# Altium footprint library ON Semi JFETs.PcbLib: 15 footprints
Each footprint in its own frame and in the unit in brackets; x right, y up, seen from the top. Pads: shape width x height; smd on the part's side, far side on the other; paste and mask are expansions set on the pad; w line width, h text height; cw(c..) or ccw(c..) is an arc to the next point about the centre after c.
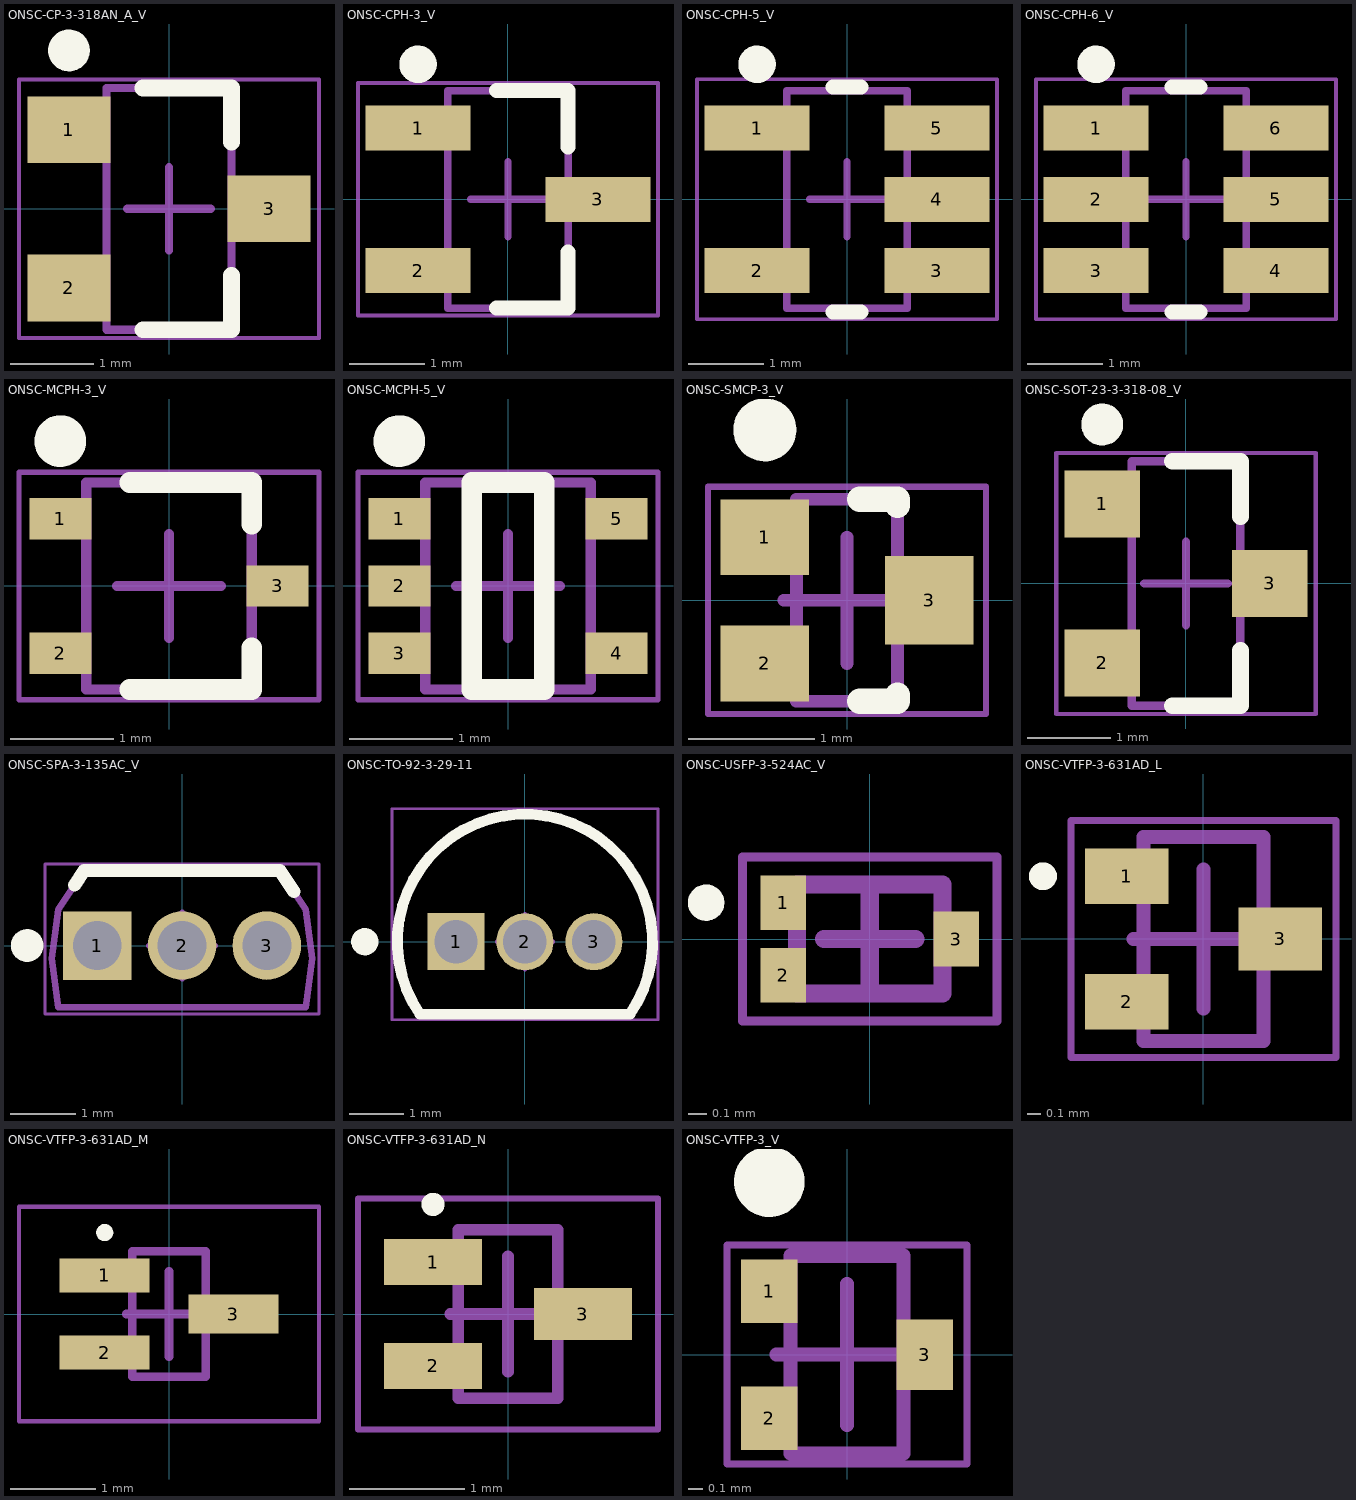
[diagram p0: the footprints below, top view; thin cyan lines are the x and y axes]

## ONSC-CP-3-318AN_A_V [mm] "SOT23, 3-Leads, Body 2.9x1.5mm, Pitch 0.95mm"
height 1.308
pads (3):
  rect 1x0.8 smd: 1(-1.2,0.95) 2(-1.2,-0.95) 3(1.2,0)
Top Overlay:
  circle w0.25: c-1.2,1.9 r0.125
  lines w0.2: -0.313,-1.45 0.75,-1.45 0.75,-0.8 ; -0.313,1.45 0.75,1.45 0.75,0.8
Mechanical 13:
  lines w0.1: -0.75,-1.45 -0.75,1.45 0.75,1.45 0.75,-1.45 -0.75,-1.45
Mechanical 15:
  lines w0.05: -1.8,-1.55 -1.8,1.55 1.8,1.55 1.8,-1.55 -1.8,-1.55
  lines w0.1: -0.5,0 0.5,0 ; 0,-0.5 0,0.5
3D body: height 1.31, standoff 0, extent -0.75,-1.45 0.75,1.45

## ONSC-CPH-3_V [mm] "SOT23, 3-Leads, Body 2.9x1.6mm, Pitch 0.95mm"
height 1.05
pads (3):
  rect 1.4x0.6 smd: 1(-1.2,0.95) 2(-1.2,-0.95) 3(1.2,0)
Top Overlay:
  circle w0.25: c-1.2,1.8 r0.125
  lines w0.2: -0.154,-1.45 0.8,-1.45 0.8,-0.7 ; -0.154,1.45 0.8,1.45 0.8,0.7
Mechanical 13:
  lines w0.1: -0.8,-1.45 -0.8,1.45 0.8,1.45 0.8,-1.45 -0.8,-1.45
Mechanical 15:
  lines w0.05: -2,-1.55 -2,1.55 2,1.55 2,-1.55 -2,-1.55
  lines w0.1: -0.5,0 0.5,0 ; 0,-0.5 0,0.5
3D body: height 1.05, standoff 0, extent -0.8,-1.45 0.8,1.45

## ONSC-CPH-5_V [mm] "SOT23, 5-Leads, Body 2.9x1.6mm, Pitch 0.95mm"
height 1.02
pads (5):
  rect 1.4x0.6 smd: 1(-1.2,0.95) 2(-1.2,-0.95) 3(1.2,-0.95) 4(1.2,0) 5(1.2,0.95)
Top Overlay:
  circle w0.25: c-1.2,1.8 r0.125
  lines w0.2: -0.188,-1.5 0.188,-1.5 ; -0.188,1.5 0.188,1.5
Mechanical 13:
  lines w0.1: -0.8,-1.45 0.8,-1.45 0.8,1.45 -0.8,1.45 -0.8,-1.45
Mechanical 15:
  lines w0.05: -2,-1.6 2,-1.6 2,1.6 -2,1.6 -2,-1.6
  lines w0.1: -0.5,0 0.5,0 ; 0,-0.5 0,0.5
3D body: height 1.02, standoff 0, extent -0.8,-1.45 0.8,1.45

## ONSC-CPH-6_V [mm] "SOT23, 6-Leads, Body 2.9x1.6mm, Pitch 0.95mm"
height 1.02
pads (6):
  rect 1.4x0.6 smd: 1(-1.2,0.95) 2(-1.2,0) 3(-1.2,-0.95) 4(1.2,-0.95) 5(1.2,0) 6(1.2,0.95)
Top Overlay:
  circle w0.25: c-1.2,1.8 r0.125
  lines w0.2: -0.188,-1.5 0.188,-1.5 ; -0.188,1.5 0.188,1.5
Mechanical 13:
  lines w0.1: -0.8,-1.45 0.8,-1.45 0.8,1.45 -0.8,1.45 -0.8,-1.45
Mechanical 15:
  lines w0.05: -2,-1.6 2,-1.6 2,1.6 -2,1.6 -2,-1.6
  lines w0.1: -0.5,0 0.5,0 ; 0,-0.5 0,0.5
3D body: height 1.02, standoff 0, extent -0.8,-1.45 0.8,1.45

## ONSC-MCPH-3_V [mm] "SOT23, 3-Leads, Body 2x1.6mm, Pitch 0.65mm"
height 0.9
pads (3):
  rect 0.6x0.4 smd: 1(-1.05,0.65) 2(-1.05,-0.65) 3(1.05,0)
Top Overlay:
  circle w0.25: c-1.05,1.4 r0.125
  lines w0.2: -0.379,-1 0.8,-1 0.8,-0.6 ; -0.379,1 0.8,1 0.8,0.6
Mechanical 13:
  lines w0.1: -0.8,-1 -0.8,1 0.8,1 0.8,-1 -0.8,-1
Mechanical 15:
  lines w0.05: -1.45,-1.1 -1.45,1.1 1.45,1.1 1.45,-1.1 -1.45,-1.1
  lines w0.1: -0.5,0 0.5,0 ; 0,-0.5 0,0.5
3D body: height 0.9, standoff 0, extent -0.8,-1 0.8,1

## ONSC-MCPH-5_V [mm] "SOT23, 5-Leads, Body 2x1.6mm, Pitch 0.65mm"
height 0.9
pads (5):
  rect 0.6x0.4 smd: 1(-1.05,0.65) 2(-1.05,0) 3(-1.05,-0.65) 4(1.05,-0.65) 5(1.05,0.65)
Top Overlay:
  circle w0.25: c-1.05,1.4 r0.125
  lines w0.2: -0.35,-1 -0.35,1 0.35,1 0.35,-1 -0.35,-1
Mechanical 13:
  lines w0.1: -0.8,-1 -0.8,1 0.8,1 0.8,-1 -0.8,-1
Mechanical 15:
  lines w0.05: -1.45,-1.1 -1.45,1.1 1.45,1.1 1.45,-1.1 -1.45,-1.1
  lines w0.1: -0.5,0 0.5,0 ; 0,-0.5 0,0.5
3D body: height 0.9, standoff 0, extent -0.8,-1 0.8,1

## ONSC-SMCP-3_V [mm] "SOT23, 3-Leads, Body 1.6x0.8mm, Pitch 0.5mm"
height 0.912
pads (3):
  rect 0.7x0.6 smd: 1(-0.65,0.5) 2(-0.65,-0.5)
  rect 0.7x0.7 smd: 3(0.65,0)
Top Overlay:
  circle w0.25: c-0.65,1.35 r0.125
  lines w0.2: 0.1,-0.8 0.4,-0.8 0.4,-0.75 ; 0.1,0.8 0.4,0.8 0.4,0.75
Mechanical 13:
  lines w0.1: -0.4,-0.8 0.4,-0.8 0.4,0.8 -0.4,0.8 -0.4,-0.8
Mechanical 15:
  lines w0.05: -1.1,-0.9 1.1,-0.9 1.1,0.9 -1.1,0.9 -1.1,-0.9
  lines w0.1: -0.5,0 0.5,0 ; 0,-0.5 0,0.5
3D body: height 0.91, standoff 0, extent -0.4,-0.8 0.4,0.8

## ONSC-SOT-23-3-318-08_V [mm] "SOT23, 3-Leads, Body 2.92x1.3mm, Pitch 0.95mm"
height 1.11
pads (3):
  rect 0.9x0.8 smd: 1(-1,0.95) 2(-1,-0.95) 3(1,0)
Top Overlay:
  circle w0.25: c-1,1.9 r0.125
  lines w0.2: -0.165,-1.46 0.65,-1.46 0.65,-0.8 ; -0.165,1.46 0.65,1.46 0.65,0.8
Mechanical 13:
  lines w0.1: -0.65,-1.46 0.65,-1.46 0.65,1.46 -0.65,1.46 -0.65,-1.46
Mechanical 15:
  lines w0.05: -1.55,-1.56 1.55,-1.56 1.55,1.56 -1.55,1.56 -1.55,-1.56
  lines w0.1: -0.5,0 0.5,0 ; 0,-0.5 0,0.5
3D body: height 1.11, standoff 0.01, extent -0.65,-1.46 0.65,1.46

## ONSC-SPA-3-135AC_V [mm] "FM, 3-Leads, Body 4x2.2mm, Pitch 1.3mm"
height 5.083
pads (3):
  rect 1.05x1.05 hole 0.75: 1(-1.3,0)
  round 1.05 hole 0.75: 2(0,0) 3(1.3,0)
Top Overlay:
  circle w0.25: c-2.375,0 r0.125
  lines w0.2: -1.65,0.925 -1.5,1.15 1.5,1.15 1.716,0.826
Mechanical 13:
  lines w0.1: -2,-0.2 -1.9,0.55 -1.5,1.15 1.5,1.15 1.9,0.55 2,-0.2 1.9,-0.95 -1.9,-0.95 -2,-0.2
Mechanical 15:
  lines w0.05: -2.1,-1.05 2.1,-1.05 2.1,1.25 -2.1,1.25 -2.1,-1.05
  lines w0.1: -0.5,0 0.5,0 ; 0,-0.5 0,0.5
3D body: height 5.08, standoff 1.6, extent -2,-0.95 2,1.15
3D body: height 1.6, standoff -13.74, extent -0.199,-0.199 0.199,0.199
3D body: height 1.6, standoff -13.74, extent -1.499,-0.199 -1.1,0.2
3D body: height 1.6, standoff -13.74, extent 1.101,-0.199 1.5,0.2

## ONSC-TO-92-3-29-11 [mm] "TO, 3-Leads, Body Dia 4.7mm, Pitch 1.27mm"
height 7.87
pads (3):
  rect 1.05x1.05 hole 0.8: 1(-1.27,0)
  round 1.05 hole 0.8: 2(0,0) 3(1.27,0)
Top Overlay:
  circle w0.25: c-2.95,0 r0.125
  lines w0.2: -1.934,-1.335 cw(c0,0) 1.934,-1.335 -1.934,-1.335
Mechanical 13:
  lines w0.1: -1.934,-1.335 cw(c0,0) 1.934,-1.335 -1.934,-1.335
Mechanical 15:
  lines w0.05: -2.45,-1.435 2.45,-1.435 2.45,2.45 -2.45,2.45 -2.45,-1.435
  lines w0.1: -0.5,0 0.5,0 ; 0,-0.5 0,0.5
3D body: height 7.87, standoff 2.54, extent -2.361,-1.339 2.361,2.361

## ONSC-USFP-3-524AC_V [mm] "SOT223, 3-Leads, Body 0.8x0.6mm, Pitch 0.4mm"
height 0.3
pads (3):
  rect 0.25x0.3 smd: 1(-0.475,0.2) 2(-0.475,-0.2) 3(0.475,0)
Top Overlay:
  circle w0.1: c-0.9,0.2 r0.05
Mechanical 13:
  lines w0.1: -0.4,-0.3 0.4,-0.3 0.4,0.3 -0.4,0.3 -0.4,-0.3
Mechanical 15:
  lines w0.05: -0.7,-0.45 -0.7,0.45 0.7,0.45 0.7,-0.45 -0.7,-0.45
  lines w0.1: -0.25,0 0.25,0 ; 0,-0.25 0,0.25
3D body: height 0.3, standoff 0, extent -0.4,-0.3 0.4,0.3

## ONSC-VTFP-3-631AD_L [mm] "SOT223, 3-Leads, Body 1.46x0.86mm, Pitch 0.45mm, IPC High Density"
height 0.38
pads (3):
  rect 0.6x0.4 smd: 1(-0.55,0.45) 2(-0.55,-0.45)
  rect 0.6x0.45 smd: 3(0.55,0)
Top Overlay:
  circle w0.1: c-1.15,0.45 r0.05
Mechanical 13:
  lines w0.1: -0.43,-0.73 0.43,-0.73 0.43,0.73 -0.43,0.73 -0.43,-0.73
Mechanical 15:
  lines w0.05: -0.95,-0.85 0.95,-0.85 0.95,0.85 -0.95,0.85 -0.95,-0.85
  lines w0.1: -0.5,0 0.5,0 ; 0,-0.5 0,0.5
3D body: height 0.38, standoff 0, extent -0.43,-0.73 0.43,0.73

## ONSC-VTFP-3-631AD_M [mm] "SOT223, 3-Leads, Body 1.46x0.86mm, Pitch 0.45mm, IPC Low Density"
height 0.38
pads (3):
  rect 1.05x0.4 smd: 1(-0.75,0.45) 2(-0.75,-0.45)
  rect 1.05x0.45 smd: 3(0.75,0)
Top Overlay:
  circle w0.1: c-0.75,0.95 r0.05
Mechanical 13:
  lines w0.1: -0.43,-0.73 -0.43,0.73 0.43,0.73 0.43,-0.73 -0.43,-0.73
Mechanical 15:
  lines w0.05: -1.75,-1.25 -1.75,1.25 1.75,1.25 1.75,-1.25 -1.75,-1.25
  lines w0.1: -0.5,0 0.5,0 ; 0,-0.5 0,0.5
3D body: height 0.38, standoff 0, extent -0.43,-0.73 0.43,0.73

## ONSC-VTFP-3-631AD_N [mm] "SOT223, 3-Leads, Body 1.46x0.86mm, Pitch 0.45mm, IPC Medium Density"
height 0.38
pads (3):
  rect 0.85x0.4 smd: 1(-0.65,0.45) 2(-0.65,-0.45)
  rect 0.85x0.45 smd: 3(0.65,0)
Top Overlay:
  circle w0.1: c-0.65,0.95 r0.05
Mechanical 13:
  lines w0.1: -0.43,-0.73 -0.43,0.73 0.43,0.73 0.43,-0.73 -0.43,-0.73
Mechanical 15:
  lines w0.05: -1.3,-1 -1.3,1 1.3,1 1.3,-1 -1.3,-1
  lines w0.1: -0.5,0 0.5,0 ; 0,-0.5 0,0.5
3D body: height 0.38, standoff 0, extent -0.43,-0.73 0.43,0.73

## ONSC-VTFP-3_V [mm] "SOT23, 3-Leads, Body 1.4x0.8mm, Pitch 0.45mm"
height 0.38
pads (3):
  rect 0.4x0.45 smd: 1(-0.55,0.45) 2(-0.55,-0.45)
  rect 0.4x0.5 smd: 3(0.55,0)
Top Overlay:
  circle w0.25: c-0.55,1.225 r0.125
Mechanical 13:
  lines w0.1: -0.4,-0.7 -0.4,0.7 0.4,0.7 0.4,-0.7 -0.4,-0.7
Mechanical 15:
  lines w0.05: -0.85,-0.775 -0.85,0.775 0.85,0.775 0.85,-0.775 -0.85,-0.775
  lines w0.1: -0.5,0 0.5,0 ; 0,-0.5 0,0.5
3D body: height 0.38, standoff 0, extent -0.4,-0.7 0.4,0.7